# EAGLE library part CON_01X22 (library MF_Connectors)
Library: MF_Connectors Description: Header Connector with 22 Positions and 01 Rows. Use the LABEL Attribute to label the pin on the schematic and PCB. You can remove the attributes on the PCB by using the SMASH function on the part and then deleting the text.
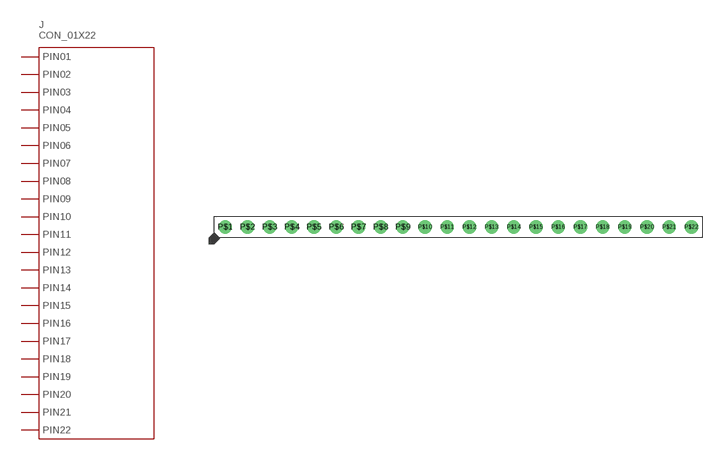
[diagram p19: symbol with the pads of PTH_2.54MM_01X22; footprint PTH_2.54MM_01X22]

Designator prefix J

## CON_01X22_PTH_2.54MM (HOUSEPART: YES; MPN: MF-CON-2.54mm-01x22; POPULATE: 1; URL: https://factory.macrofab.com/part/MF-CON-2.54mm-01x22; VALUE: MF-CON-2.54mm-01x22)  [PTH_2.54MM_01X22]
P$1  PIN1
P$2  PIN2
P$3  PIN3
P$4  PIN4
P$5  PIN5
P$6  PIN6
P$7  PIN7
P$8  PIN8
P$9  PIN9
P$10  PIN10
P$11  PIN11
P$12  PIN12
P$13  PIN13
P$14  PIN14
P$15  PIN15
P$16  PIN16
P$17  PIN17
P$18  PIN18
P$19  PIN19
P$20  PIN20
P$21  PIN21
P$22  PIN22

## Footprint PTH_2.54MM_01X22 (pad centres in mm)
Description: Package for 2.54MM Pitch Header 22 Position. Based on 4UCON 00834.
drill 1: P$1 -26.67,0; P$2 -24.13,0; P$3 -21.59,0; P$4 -19.05,0; P$5 -16.51,0; P$6 -13.97,0; P$7 -11.43,0; P$8 -8.89,0; P$9 -6.35,0; P$10 -3.81,0; P$11 -1.27,0; P$12 1.27,0; P$13 3.81,0; P$14 6.35,0; P$15 8.89,0; P$16 11.43,0; P$17 13.97,0; P$18 16.51,0; P$19 19.05,0; P$20 21.59,0; P$21 24.13,0; P$22 26.67,0